# Altium footprint library NonParts.PcbLib: 2 footprints
Each footprint in its own frame and in the unit in brackets; x right, y up, seen from the top. Pads: shape width x height; smd on the part's side, far side on the other; paste and mask are expansions set on the pad; w line width, h text height; cw(c..) or ccw(c..) is an arc to the next point about the centre after c.
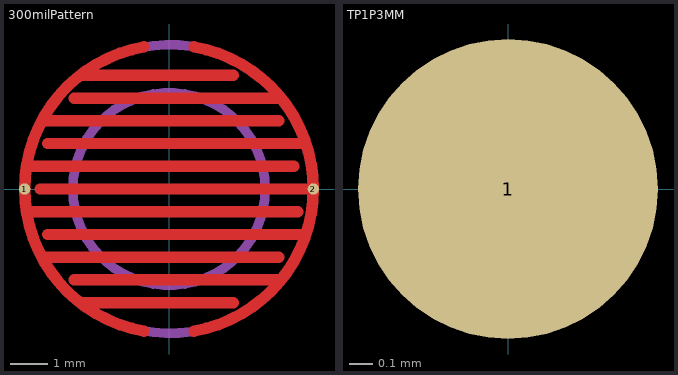
[diagram p0: the footprints below, top view; thin cyan lines are the x and y axes]

## 300milPattern [mm]
pads (2):
  round 0.3 smd paste+0 mask+0: 1(-3.81,0) 2(3.81,0)
Top Layer:
  lines w0.3: -3.7,-0.6 3.4,-0.6 ; -3.7,0.6 3.3,0.6 ; -3.4,0 3.81,0 ; -3.3,-1.8 2.9,-1.8 ; -3.3,1.8 2.9,1.8 ; -3.2,-1.2 3.5,-1.2 ; -3.2,1.2 3.5,1.2 ; -2.5,-2.4 2.9,-2.4 ; -2.5,2.4 2.9,2.4 ; -2.3,-3 1.7,-3 ; -2.3,3 1.7,3 ; -0.662,-3.752 cw(c0,0) -0.662,3.752 ; 0.662,-3.752 ccw(c0,0) 0.662,3.752
Mechanical 3:
  circle w0.254: c0,0 r3.81
  circle w0.254: c0,0 r2.54

## TP1P3MM [mm]
pads (1):
  round 1.3 smd paste+0 mask-1: 1(0,0)